# EAGLE library part QS3384 (library de1_parts)
IDT Quickswitch - 3.3V/5V conversion
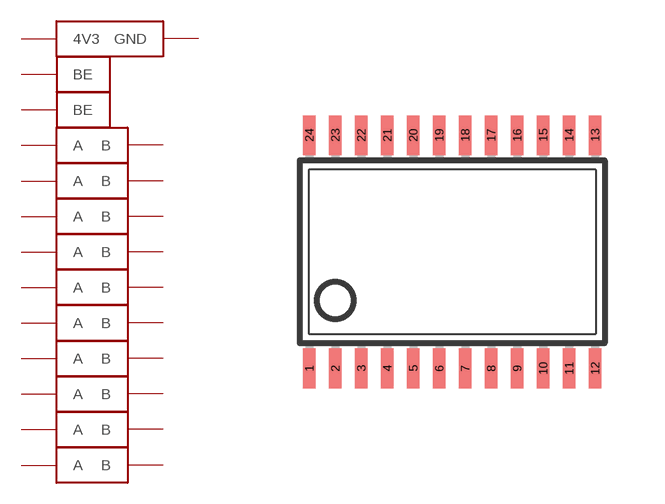
[diagram p0: symbol with the pads of TSSOP24; footprint TSSOP24]

Designator prefix -; gates G4=QS_3384_ELEMENT G3=QS_3384_ELEMENT G2=QS_3384_ELEMENT G1=QS_3384_ELEMENT G0=QS_3384_ELEMENT G5=QS_3384_ELEMENT G6=QS_3384_ELEMENT G7=QS_3384_ELEMENT G8=QS_3384_ELEMENT G9=QS_3384_ELEMENT BEA=QS_3884_ENABLE BEB=QS_3884_ENABLE G$1=QS_3884_POWER

## QS3384  [TSSOP24]
1  BEA:BE  in
2  G0:B  in
3  G0:A  in
4  G1:A  in
5  G1:B  in
6  G2:B  in
7  G2:A  in
8  G3:A  in
9  G3:B  in
10  G4:B  in
11  G4:A  in
12  G$1:GND  pwr
13  BEB:BE  in
14  G5:A  in
15  G5:B  in
16  G6:B  in
17  G6:A  in
18  G7:A  in
19  G7:B  in
20  G8:B  in
21  G8:A  in
22  G9:A  in
23  G9:B  in
24  G$1:4V3  pwr

## Footprint TSSOP24 (pad centres in mm)
Thin Shrink Small Outline Plastic 24 MAX3223-MAX3243.pdf
smd 0.305 x 0.991: 1 -3.575,-2.918; 2 -2.925,-2.918; 3 -2.275,-2.918; 4 -1.625,-2.918; 5 -0.975,-2.918; 6 -0.325,-2.918; 7 0.325,-2.918; 8 0.975,-2.918; 9 1.625,-2.918; 10 2.275,-2.918; 11 2.925,-2.918; 12 3.575,-2.918; 13 3.575,2.918; 14 2.925,2.918; 15 2.275,2.918; 16 1.625,2.918; 17 0.975,2.918; 18 0.325,2.918; 19 -0.325,2.918; 20 -0.975,2.918; 21 -1.625,2.918; 22 -2.275,2.918; 23 -2.925,2.918; 24 -3.575,2.918